# EAGLE library part 8510-4500PL (library 3M_By_element14_Batch_1)
CONN SOCKET PCB VERT 10POS
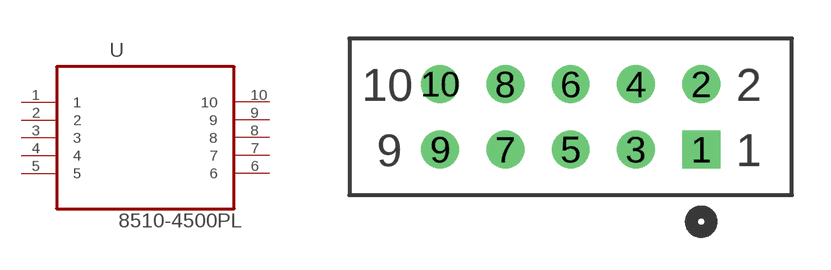
[diagram p69: symbol with the pads of 3M_8510-4500PL; footprint 3M_8510-4500PL]

Designator prefix U

## 8510-4500PL (MPN: 8510-4500PL; OC_FARNELL: 9138625; OC_NEWARK: 34P8802; PACKAGE: VERT 10POS .1"; SUPPLIER: 3M)  [3M_8510-4500PL]
1  1  pas
2  2  pas
3  3  pas
4  4  pas
5  5  pas
6  6  pas
7  7  pas
8  8  pas
9  9  pas
10  10  pas

## Footprint 3M_8510-4500PL (pad centres in mm)
drill 0.965 square: 1 10.16,-2.54
drill 0.965: 2 10.16,0; 3 7.62,-2.54; 4 7.62,0; 5 5.08,-2.54; 6 5.08,0; 7 2.54,-2.54; 8 2.54,0; 9 0,-2.54; 10 0,0